# EAGLE library part EMBASE_2_4_SMD (library pierre_vv)
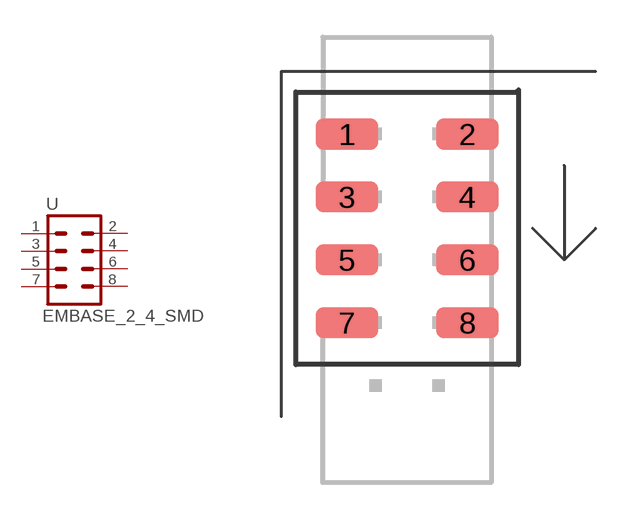
[diagram p2: symbol with the pads of 2X4_PINSMD; footprint 2X4_PINSMD]

Designator prefix -

## EMBASE_2_4_SMD  [2X4_PINSMD]
1  1  pas
2  2  pas
3  3  pas
4  4  pas
5  5  pas
6  6  pas
7  7  pas
8  8  pas

## Footprint 2X4_PINSMD (pad centres in mm)
smd 2.54 x 1.27: 1 -2.435,5.08; 2 2.435,5.08; 3 -2.435,2.54; 4 2.435,2.54; 5 -2.435,0; 6 2.435,0; 7 -2.435,-2.54; 8 2.435,-2.54